# EAGLE library part L6228 (library crayon)
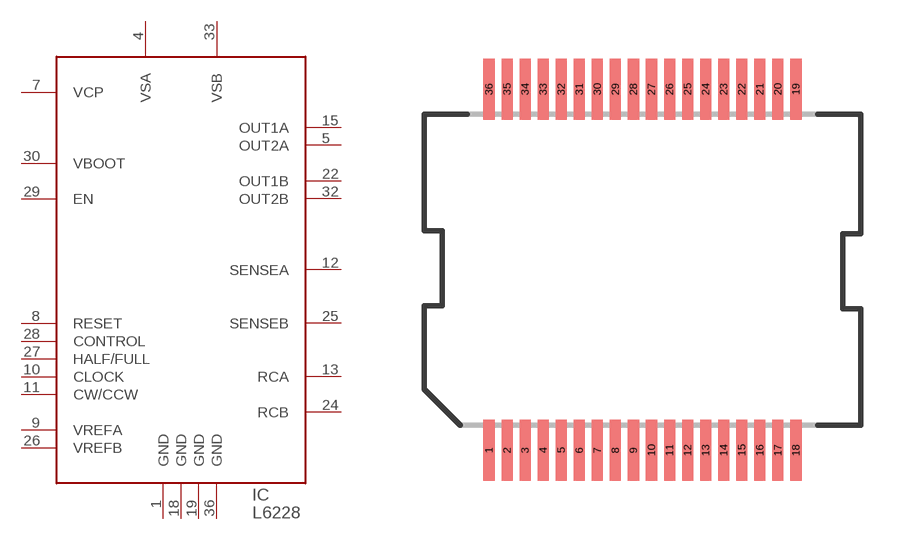
[diagram p2: symbol with the pads of POWERSO-36; footprint POWERSO-36]

Designator prefix IC

## L6228PD  [POWERSO-36]
1  GND  pwr
4  VSA  pwr
5  OUT2A
7  VCP  pas
8  RESET  in
9  VREFA  in
10  CLOCK  in
11  CW/CCW  in
12  SENSEA  pas
13  RCA  pas
15  OUT1A
18  GND  pwr
19  GND  pwr
22  OUT1B
24  RCB  pas
25  SENSEB  pas
26  VREFB  in
27  HALF/FULL  in
28  CONTROL  in
29  EN  in
30  VBOOT  pas
32  OUT2B
33  VSB  pwr
36  GND  pwr

## Footprint POWERSO-36 (pad centres in mm)
Power Small Outline
smd 0.4 x 2.2: 1 -5.525,-6.5; 2 -4.875,-6.5; 3 -4.225,-6.5; 4 -3.575,-6.5; 5 -2.925,-6.5; 6 -2.275,-6.5; 7 -1.625,-6.5; 8 -0.975,-6.5; 9 -0.325,-6.5; 10 0.325,-6.5; 11 0.975,-6.5; 12 1.625,-6.5; 13 2.275,-6.5; 14 2.925,-6.5; 15 3.575,-6.5; 16 4.225,-6.5; 17 4.875,-6.5; 18 5.525,-6.5; 19 5.525,6.5; 20 4.875,6.5; 21 4.225,6.5; 22 3.575,6.5; 23 2.925,6.5; 24 2.275,6.5; 25 1.625,6.5; 26 0.975,6.5; 27 0.325,6.5; 28 -0.325,6.5; 29 -0.975,6.5; 30 -1.625,6.5; 31 -2.275,6.5; 32 -2.925,6.5; 33 -3.575,6.5; 34 -4.225,6.5; 35 -4.875,6.5; 36 -5.525,6.5